# Altium schematic symbol library LM317.SchLib: 2 symbols
Pins are listed as number, name and electrical type; pins without a type are passive.

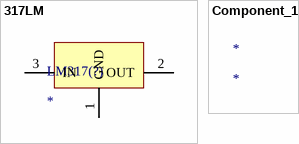
[diagram p0: symbols 317LM to Component_1]

## 317LM
designator LM317(?)
footprint TO220
pins: 1 GND (power), 2 OUT (power), 3 IN (power)

## Component_1
designator *